# Altium footprint library PCB - DIODES - DIOM5226X240N.PcbLib: 1 footprints
Each footprint in its own frame and in the unit in brackets; x right, y up, seen from the top. Pads: shape width x height; smd on the part's side, far side on the other; paste and mask are expansions set on the pad; w line width, h text height; cw(c..) or ccw(c..) is an arc to the next point about the centre after c.
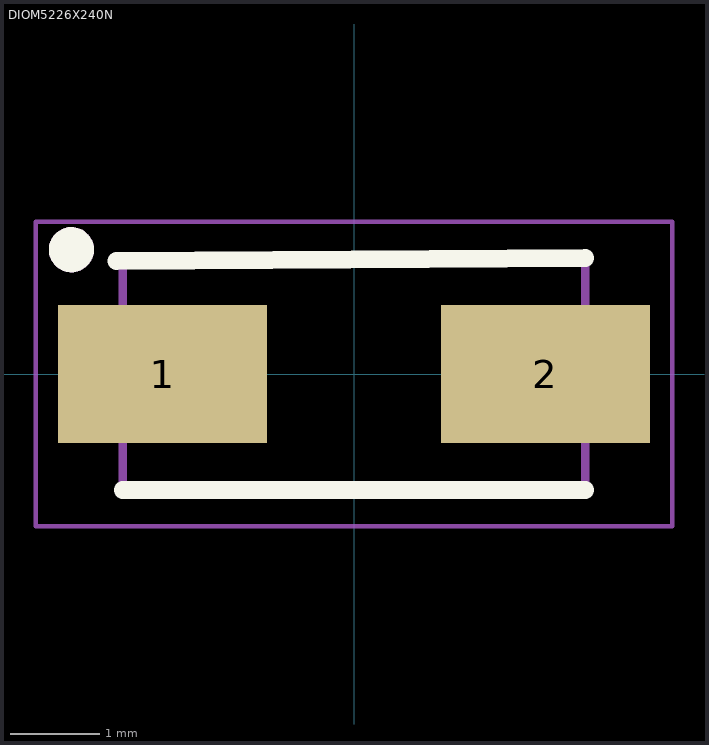
[diagram p0: the footprint, top view; thin cyan lines are the x and y axes]

## DIOM5226X240N [mm]
pads (2):
  rect 2.35x1.55 smd: 1(-2.15,0) 2(2.15,0)
Top Overlay:
  circle w0.254: c-3.175,1.397 r0.127
  lines w0.2: -2.667,1.27 2.598,1.302 ; -2.598,-1.302 2.598,-1.302
Top Assembly:
  circle w0.254: c-3.175,1.397 r0.127
  lines w0.1: -2.598,-1.302 2.598,-1.302 2.598,1.302 -2.598,1.302 -2.598,-1.302
Top Courtyard:
  lines w0.05: -3.575,-1.71 3.575,-1.71 3.575,1.71 -3.575,1.71 -3.575,-1.71
Top Designator:
  text ".Designator" at -3.429,3.937 h1
Top Value (Mech13):
  text ".Comment" at -3.429,2.794 h1
3D body "MMSZ5242B-7-F.stp": height 2.4, standoff 0, extent -2.597,-1.302 2.598,1.303